# Altium schematic symbol library 3-1734035-2.SchLib: 1 symbol
Pins are listed as number, name and electrical type; pins without a type are passive.

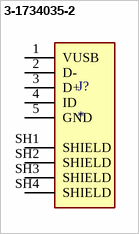
[diagram p0: symbol 3-1734035-2]

## 3-1734035-2
designator J?
USB Connectors MINI USB, R/A, SMT, MATTE TIN, W/O MYLAR; MP: 3-1734035-2; MF: {'manufacturer': u'TE Connectivity'}; Value: *; Availability: Unavailable; Price: None; Package: None
footprint TE_3-1734035-2
pins: 1 VUSB, 2 D-, 3 D+, 4 ID, 5 GND, SH1 SHIELD, SH2 SHIELD, SH3 SHIELD, SH4 SHIELD